# Altium schematic symbol library SCH_Lib.SchLib: 15 symbols
Pins are listed as number, name and electrical type; pins without a type are passive.

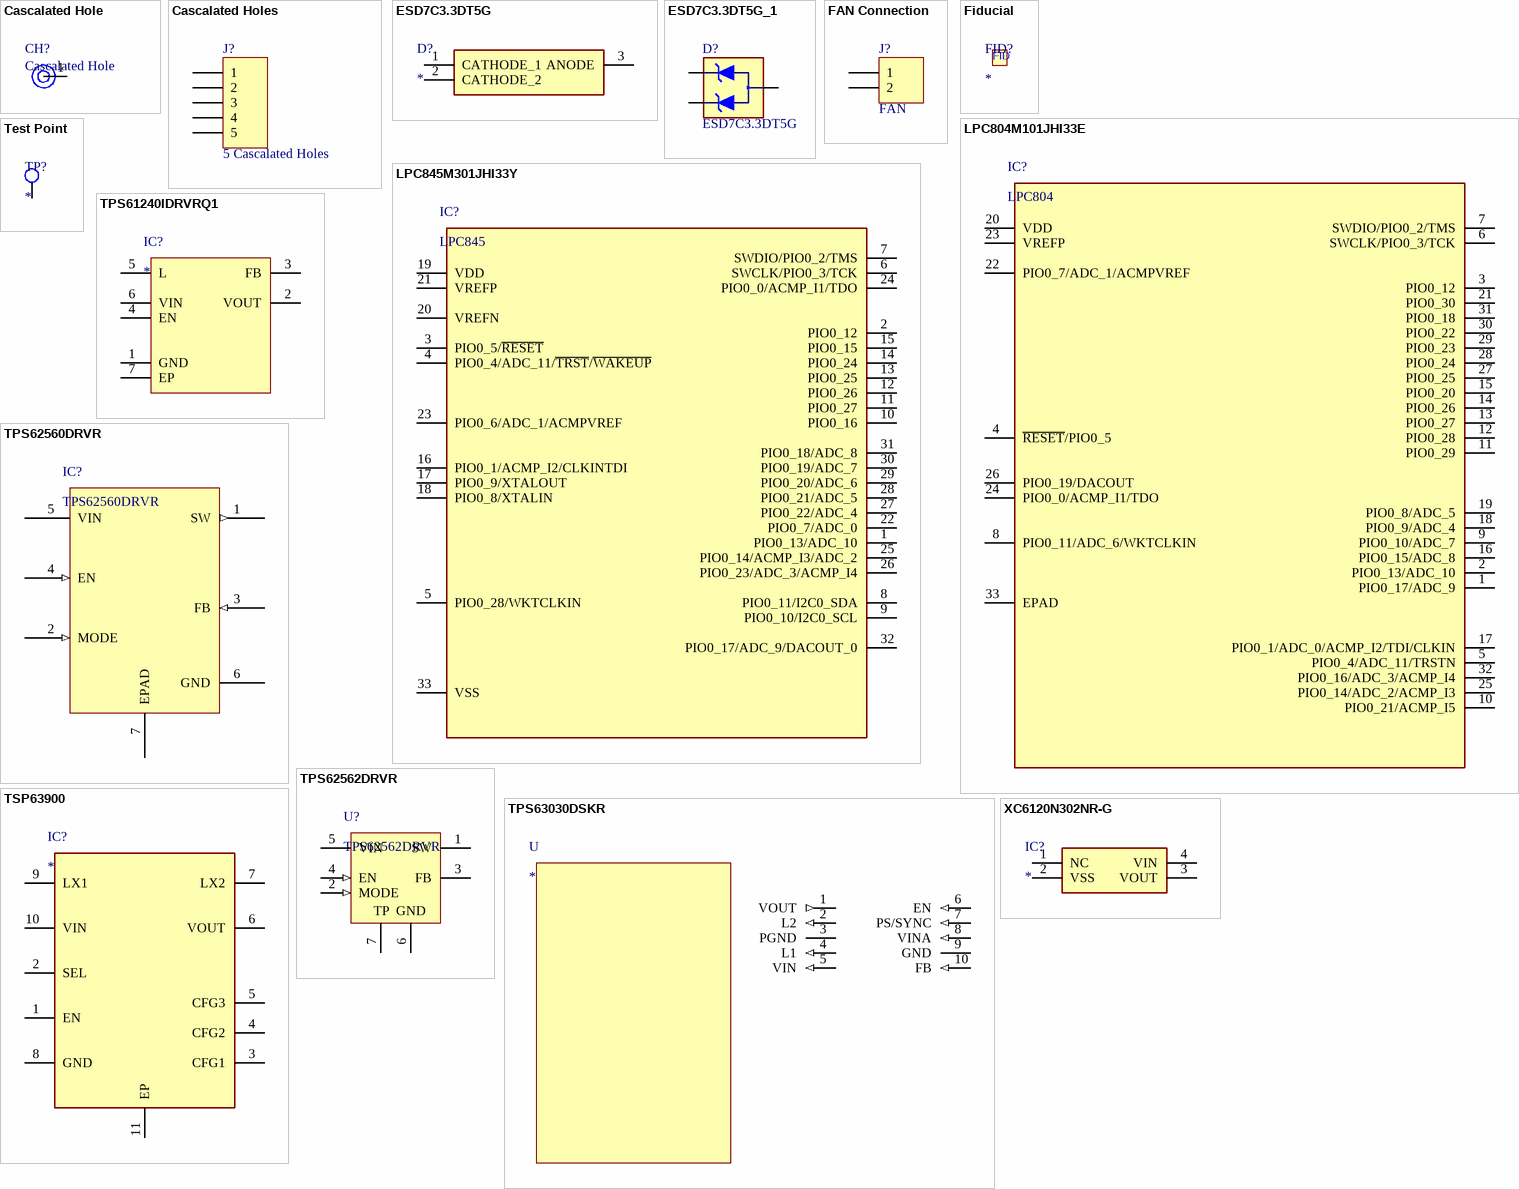
[diagram p0: symbols Cascalated Hole to XC6120N302NR-G]

## Cascalated Hole
designator CH?
footprint C200H120 (Plated Through Hole: Hole Dia.=1.2mm Pad Dia.=2.0mm)
pins: 1 TP

## Cascalated Holes
designator J?, comment 5 Cascalated Holes
LatestRevisionDate: 17-Jul-2002; LatestRevisionNote: Re-released for DXP Platform.; Publisher: Altium Limited
footprint HDR1X5 (Connector; Header; 5 Position)
signal-integrity model Connector
footprint Cascalated Holes (Plated Through Hole: Hole Dia.=1.2mm Pad Dia.=2.0mm)
pins: 1, 2, 3, 4, 5

## ESD7C3.3DT5G
designator D?
TVS Diode (Uni-directional); Manufacturer_Name: ON Semiconductor; Manufacturer_Part_Number: ESD7C3.3DT5G; Datasheet Link: http://www.onsemi.com/pub/Collateral/ESD7C3.3D-D.PDF; Height: 0.55mm; Arrow Part Number: ESD7C3.3DT5G; Arrow Price/Stock: https://www.arrow.com/en/products/esd7c3.3dt5g/on-semiconductor; Mouser Part Number: 863-ESD7C3.3DT5G; Mouser Price/Stock: https://www.mouser.com/Search/Refine.aspx?Keyword=863-ESD7C3.3DT5G
footprint SOTFL40P120X55-3N
pins: 1 CATHODE_1, 2 CATHODE_2, 3 ANODE

## ESD7C3.3DT5G_1
designator D?, comment ESD7C3.3DT5G
TVS Diode Arrays ESD PROTECT DIODE; Manufacturer: ON Semiconductor; Breakdown Voltage: 5 V; Capacitance: 12 pF; Operating Voltage: 3.3 V; Channels: 2 Channels; Polarity: Unidirectional; Astrohn Group: Diodai; Manufacturer Part Number: ESD7C3.3DT5G; RoHS: RoHS Compliant; Category: TVS Diode Arrays; Stock 1: 10074; Pricing 1: 1=0.581, 10=0.335, 100=0.158, 1000=0.122, 2500=0.104, 8000=0.095, 24000=0.088, 48000=0.080, 96000=0.076 (AUD); Dimensions: 0.8 mm W x 1.2 mm L; Package / Case: SOT-723; Packaging: Reel; Series: ESD7C; Termination Style: SMD/SMT; Brand: ON Semiconductor; Mounting Style: SMD/SMT; Maximum Operating Temperature: + 150 C; Minimum Operating Temperature: - 55 C; Product Category: General ESD; Standard Pack Qty: 8000; RoHS - Mouser: Y; Minimum Order Quantity: 1; Reeling: True; Supplier Part Number 1: 863-ESD7C3.3DT5G; Astrohn Part Number: ESD7C3.3DT5G; Eltera Group: Diodai; Eltera Part Number: ESD7C3.3DT5G
footprint SOT723
pins: 1, 2, 3

## FAN Connection
designator J?, comment FAN
Fan Connection Test Points; LatestRevisionDate: 17-Jul-2002; LatestRevisionNote: Re-released for DXP Platform.; Publisher: Altium Limited
footprint HDR1X2 (Connector; Header; 2 Position)
signal-integrity model Connector
footprint FAN Connections
pins: 1, 2

## Fiducial
designator FID?
footprint Fiducial-0.5mm
text: FID

## LPC804M101JHI33E
designator IC?, comment LPC804
ARM® Cortex®-M0+ LPC80xM Microcontroller IC 32-Bit 15MHz 32KB (32K x 8) FLASH 32-HVQFN (5x5); Manufacturer_Name: NXP; Manufacturer_Part_Number: LPC804M101JHI33E; Datasheet Link: http://www.nxp.com/docs/en/data-sheet/LPC802.pdf; Height: 0.85mm; Arrow Part Number: LPC804M101JHI33E; Arrow Price/Stock: https://www.arrow.com/en/products/lpc804m101jhi33e/nxp-semiconductors; Mouser Part Number: 771-LPC804M101JHI33E; Mouser Price/Stock: https://www.mouser.co.uk/ProductDetail/NXP-Semiconductors/LPC804M101JHI33E?qs=W0yvOO0ixfHIx9hcu1SiBw%3D%3D
footprint QFN50P500X500X85-33N-D
pins: 1 PIO0_17/ADC_9, 2 PIO0_13/ADC_10, 3 PIO0_12, 4 ~{RESET}/PIO0_5, 5 PIO0_4/ADC_11/TRSTN, 6 SWCLK/PIO0_3/TCK, 7 SWDIO/PIO0_2/TMS, 8 PIO0_11/ADC_6/WKTCLKIN, 9 PIO0_10/ADC_7, 10 PIO0_21/ACMP_I5, 11 PIO0_29, 12 PIO0_28, 13 PIO0_27, 14 PIO0_26, 15 PIO0_20, 16 PIO0_15/ADC_8, 17 PIO0_1/ADC_0/ACMP_I2/TDI/CLKIN, 18 PIO0_9/ADC_4, 19 PIO0_8/ADC_5, 20 VDD, 21 PIO0_30, 22 PIO0_7/ADC_1/ACMPVREF, 23 VREFP, 24 PIO0_0/ACMP_I1/TDO, 25 PIO0_14/ADC_2/ACMP_I3, 26 PIO0_19/DACOUT, 27 PIO0_25, 28 PIO0_24, 29 PIO0_23, 30 PIO0_22, 31 PIO0_18, 32 PIO0_16/ADC_3/ACMP_I4, 33 EPAD

## LPC845M301JHI33Y
designator IC?, comment LPC845
ARM® Cortex®-M0+ LPC84x Microcontroller IC 32-Bit 30MHz 64KB (64K x 8) FLASH 32-HVQFN (5x5); Manufacturer_Name: NXP; Manufacturer_Part_Number: LPC845M301JHI33Y; Datasheet Link: http://www.nxp.com/docs/en/data-sheet/LPC84x.pdf; Height: 0.85mm; Arrow Part Number: LPC845M301JHI33Y; Arrow Price/Stock: https://www.arrow.com/en/products/lpc845m301jhi33y/nxp-semiconductors; Mouser Part Number: 771-LPC845M301JHI33Y; Mouser Price/Stock: https://www.mouser.co.uk/ProductDetail/NXP-Semiconductors/LPC845M301JHI33Y?qs=AQlKX63v8RtFAajdB8vcLw%3D%3D
footprint QFN50P500X500X85-33N-D
pins: 1 PIO0_13/ADC_10, 2 PIO0_12, 3 PIO0_5/~{RESET}, 4 PIO0_4/ADC_11/~{TRST}/~{WAKEUP}, 5 PIO0_28/WKTCLKIN, 6 SWCLK/PIO0_3/TCK, 7 SWDIO/PIO0_2/TMS, 8 PIO0_11/I2C0_SDA, 9 PIO0_10/I2C0_SCL, 10 PIO0_16, 11 PIO0_27, 12 PIO0_26, 13 PIO0_25, 14 PIO0_24, 15 PIO0_15, 16 PIO0_1/ACMP_I2/CLKINTDI, 17 PIO0_9/XTALOUT, 18 PIO0_8/XTALIN, 19 VDD, 20 VREFN, 21 VREFP, 22 PIO0_7/ADC_0, 23 PIO0_6/ADC_1/ACMPVREF, 24 PIO0_0/ACMP_I1/TDO, 25 PIO0_14/ACMP_I3/ADC_2, 26 PIO0_23/ADC_3/ACMP_I4, 27 PIO0_22/ADC_4, 28 PIO0_21/ADC_5, 29 PIO0_20/ADC_6, 30 PIO0_19/ADC_7, 31 PIO0_18/ADC_8, 32 PIO0_17/ADC_9/DACOUT_0, 33 VSS

## Test Point
designator TP?  (no BOM)
footprint TestPoint-1.5mm
pins: 1 TP

## TPS61240IDRVRQ1
designator IC?
Integrated Circuit; Manufacturer_Name: Texas Instruments; Manufacturer_Part_Number: TPS61240IDRVRQ1; Datasheet Link: http://www.ti.com/lit/gpn/tps61240-q1; Height: 0.8mm; Arrow Part Number: TPS61240IDRVRQ1; Arrow Price/Stock: https://www.arrow.com/en/products/tps61240idrvrq1/texas-instruments; Mouser Part Number: 595-TPS61240IDRVRQ1; Mouser Price/Stock: https://www.mouser.com/Search/Refine.aspx?Keyword=595-TPS61240IDRVRQ1
footprint SON65P200X200X80-7N
pins: 1 GND, 2 VOUT, 3 FB, 4 EN, 5 L, 6 VIN, 7 EP

## TPS62560DRVR
designator IC?
2.25MHz 600mA Step-Down Converter in 2x2mm SON Package; Manufacturer: Texas Instruments; FAMILY_NAME: STEP-DOWN REGULATOR; PIN_COUNT: 6; PACKAGE_DESIGNATOR: DRV; Datasheet_URL: http://www.ti.com/lit/gpn/TPS62560; INDUSTRY_STD_PKG_TYPE: SON; GENERIC_PART_NUMBER: TPS62560; Vendor: Texas Instruments; Manufacturer_Part_Number: TPS62560DRVR; Copyright: Copyright (C) 2018 Accelerated Designs. All rights reserved; RefDes: RefDes; Type: DEV
footprint DRV6_1P6X1
pins: 1 SW (out), 2 MODE (in), 3 FB (in), 4 EN (in), 5 VIN (power), 6 GND (power), 7 EPAD

## TPS62562DRVR
designator U?
Buck Step Down Regulator with 2.5 to 5.5 V Input and 1.8 V Output, -40 to 85 degC, 6-Pin SON (DRV), Green (RoHS & no Sb/Br); Manufacturer: Texas Instruments; Iout(Max)(A): 0.6; Vin(Max)(V): 5.5; SubFamily: Step-Down Regulator; Synchronous Rectification: TRUE; Switch Current Limit(Typ)(A): 1; Vout(Max)(V): 1.8; Rating: Catalog; Duty Cycle(Max)(%): 100; Iq(Typ)(mA): 0.015; Vin(Min)(V): 2.5; PartNumber: TPS62562DRVR; ComponentLink1URL: http://www.ti.com/general/docs/lit/getliterature.tsp?genericPartNumber=TPS62562&fileType=pdf; ComponentLink1Description: Datasheet; Mounting Technology: Surface Mount; PackageReference: DRV0006A; ComponentLink2Description: Package Specification; ComponentLink2URL: http://www.ti.com/litv/pdf/mpds216d; DatasheetVersion: SLVS815C; ComponentLink3Description: URL Link1; Vout(Min)(V): 1.8; Regulated Outputs(#): 1; Preset Vout(V): 1.8; ComponentLink3URL: Samples URL:http://www.ti.com/product/tps62562#samples; Eco-Plan: Green (RoHS & no Sb/Br); Topology: Buck; PackageVersion: revE, Oct-2010; PackageDescription: 6-Pin Plastic Small Outline No-Lead, 2 x 2 x 0.8 mm Body, 0.65 mm Pitch, Exposed Pad
footprint DRV0006A_V (SON, 6-Leads, Body 2x2mm, Pitch 0.65mm, Thermal Pad 1.6x1mm, TI Recommended)
pins: 1 SW (power) "This is the switch terminal and is connected to the internal MOSFET switches. Connect the external inductor between this terminal and the output capacitor.", 2 MODE (in) "This terminal is only available as an QFN package option. MODE terminal = high forces the device to operate in the fixed-frequency PWM mode. MODE terminal = low enables the power-save mode with automatic transition from PFM (See Datasheet)", 3 FB "Feedback terminal for the internal regulation loop. Connect the external resistor divider to this terminal. In the fixed-output-voltage option, connect this terminal directly to the output capacitor.", 4 EN (in) "This is the enable terminal of the device. Pulling this terminal to low forces the device into shutdown mode. Pulling this terminal to high enables the device. This terminal must be terminated.", 5 VIN (power) "VIN power-supply terminal", 6 GND (power) "GND supply terminal", 7 TP (power) "Exposed thermal pad."

## TPS63030DSKR
designator U
High Efficient Single Inductor Buck-Boost Converter with 1-A Switches 10-SON -40 to 85; MF: Texas Instruments; MP: TPS63030DSKR; Price: None; Value: *; Texas_Instruments-Purchase-URL: https://snapeda.com/shop?store=Texas+Instruments&id=1101370; Package: WSON-10 Texas Instruments; SnapEDA_Link: https://www.snapeda.com/parts/TPS63030DSKR/Texas%20Instruments/view-part/1101370/?ref=snap; Mouser-Purchase-URL: https://snapeda.com/shop?store=Mouser&id=1101370; Availability: Unavailable; Arrow_Electronics-Purchase-URL: https://snapeda.com/shop?store=Arrow+Electronics&id=1101370; DigiKey-Purchase-URL: https://snapeda.com/shop?store=DigiKey&id=1101370
footprint SON50P250X250X80-11N
pins: 1 VOUT (out), 2 L2 (in), 3 PGND (power), 4 L1 (in), 5 VIN (in), 6 EN (in), 7 PS/SYNC (in), 8 VINA (in), 9 GND (power), 10 FB (in)

## TSP63900
designator IC?
Integrated Circuit; Manufacturer_Name: Texas Instruments; Manufacturer_Part_Number: TSP63900; Datasheet Link: https://www.ti.com/lit/ds/symlink/tps63900.pdf?ts=1591365146055; Height: 0.8mm; Arrow Part Number: TSP63900
footprint SON50P250X250X80-11N-D
pins: 1 EN, 2 SEL, 3 CFG1, 4 CFG2, 5 CFG3, 6 VOUT, 7 LX2, 8 GND, 9 LX1, 10 VIN, 11 EP

## XC6120N302NR-G
designator IC?
Integrated Circuit; Manufacturer_Name: Torex; Manufacturer_Part_Number: XC6120N302NR-G; Datasheet Link: https://www.torexsemi.com/file/SSOT-24/SSOT-24-pkg.pdf; Height: 1.1mm; Arrow Part Number: XC6120N302NR-G; Mouser Part Number: 865-XC6120N302NR-G; Mouser Price/Stock: https://www.mouser.com/Search/Refine.aspx?Keyword=865-XC6120N302NR-G
footprint XC6120N302NRG
pins: 1 NC, 2 VSS, 3 VOUT, 4 VIN